# Altium footprint library resistance.PcbLib: 2 footprints
Each footprint in its own frame and in the unit in brackets; x right, y up, seen from the top. Pads: shape width x height; smd on the part's side, far side on the other; paste and mask are expansions set on the pad; w line width, h text height; cw(c..) or ccw(c..) is an arc to the next point about the centre after c.
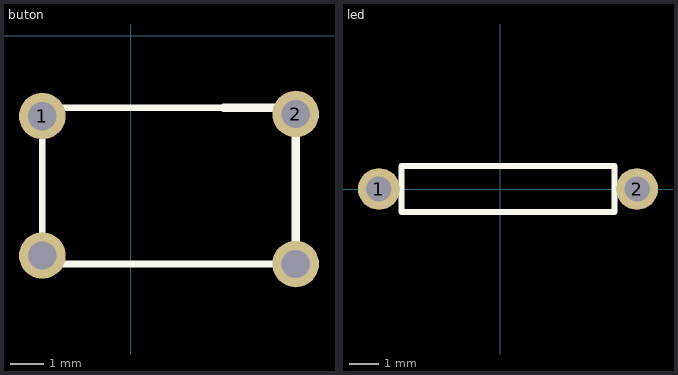
[diagram p0: the footprints below, top view; thin cyan lines are the x and y axes]

## buton [mm]
pads (4):
  round 1.4 hole 0.85: 1(-2.667,-2.413) 2(4.953,-2.349) ""(-2.667,-6.604) ""(4.953,-6.858)
Top Overlay:
  lines w0.2: 2.794,-2.159 -2.667,-2.159 -2.667,-6.858 4.953,-6.858
  lines w0.254: 2.794,-2.159 4.953,-2.159 4.953,-2.54 4.953,-6.858
3D body "Tactal Switch - SMD (6mmx 6mmx 4.3mm) - Marked.stp": height 4.3, standoff 0, extent -3.048,-7.556 5.969,-1.524

## led [mm]
pads (2):
  round 1.4 hole 0.85: 1(-4.064,0) 2(4.572,0)
Top Overlay:
  lines w0.2: -3.302,-0.762 -3.302,0.762 3.81,0.762 3.81,0 3.81,-0.762 -3.302,-0.762
3D body "resistencia.SLDPRT": height 2.46, standoff -2.54, extent -4.995,-1.016 5.503,0.976